# EAGLE library part BD6211 (library motor_driver)
ROHM Motor driver
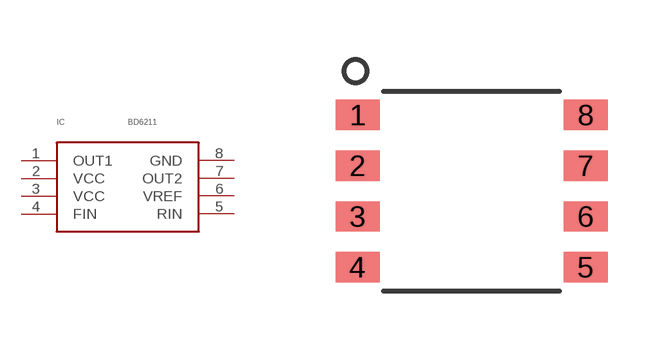
[diagram p0: symbol with the pads of SOP-8; footprint SOP-8]

Designator prefix IC

## BD6211F  [SOP-8]
1  OUT1
2  VCC
3  VCC
4  FIN
5  RIN
6  VREF
7  OUT2
8  GND

## Footprint SOP-8 (pad centres in mm)
smd 1.1 x 0.76: 1 -2.85,1.905; 2 -2.85,0.635; 3 -2.85,-0.635; 4 -2.85,-1.905; 5 2.85,-1.905; 6 2.85,-0.635; 7 2.85,0.635; 8 2.85,1.905